# Altium schematic symbol library Ind_TDK_MLG0603PR11JT000_110nH.SchLib: 1 symbol
Pins are listed as number, name and electrical type; pins without a type are passive.

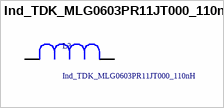
[diagram p0: symbol Ind_TDK_MLG0603PR11JT000_110nH]

## Ind_TDK_MLG0603PR11JT000_110nH
designator L?
Fixed Inductors 110nH 80mA 5%; Supplier Part Number 1: 810-MLG0603PR11JT000; Supplier 1: Mouser
footprint Ind_TDK_MLG0603PR11JT000_110nH
pins: 1, 2